# Altium schematic symbol library MiniTrimmer.SchLib: 1 symbol
Pins are listed as number, name and electrical type; pins without a type are passive.

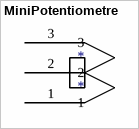
[diagram p0: symbol MiniPotentiometre]

## MiniPotentiometre
designator *
footprint MiniTrimer
pins: 1, 2, 3